# Altium footprint library PLCC-20.PcbLib: 1 footprints
Each footprint in its own frame and in the unit in brackets; x right, y up, seen from the top. Pads: shape width x height; smd on the part's side, far side on the other; paste and mask are expansions set on the pad; w line width, h text height; cw(c..) or ccw(c..) is an arc to the next point about the centre after c.
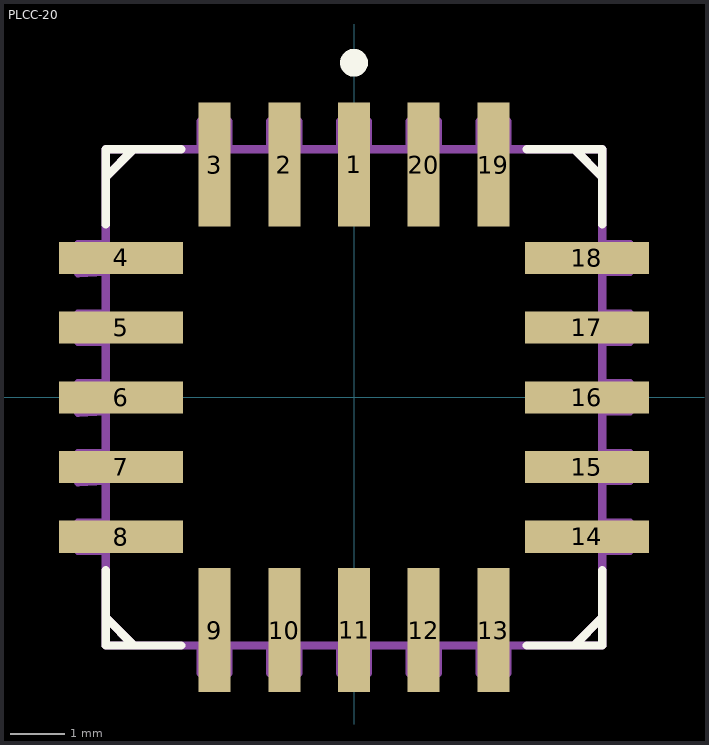
[diagram p0: the footprint, top view; thin cyan lines are the x and y axes]

## PLCC-20 [mil]
pads (20):
  rect 23x89 smd: 1(0,167) 2(-50,167) 3(-100,167) 9(-100,-167) 10(-50,-167) 11(0,-167) 12(50,-167) 13(100,-167) 19(100,167) 20(50,167)
  rect 89x23 smd: 4(-167,100) 5(-167,50) 6(-167,0) 7(-167,-50) 8(-167,-100) 14(167,-100) 15(167,-50) 16(167,0) 17(167,50) 18(167,100)
Top Overlay:
  circle w10: c0,240 r5
  lines w6: -178,-124 -178,-158 ; -178,124 -178,178 -158,178 ; -178,158 -158,178 ; -158,-178 -178,-158 ; -124,-178 -178,-178 -178,-158 ; -124,178 -158,178 ; 124,-178 158,-178 ; 124,178 178,178 178,158 ; 158,178 178,158 ; 178,-158 158,-178 ; 178,-124 178,-178 158,-178 ; 178,124 178,158
Mechanical 13:
  lines w6: -178,-158 -158,-178 ; -178,158 -158,178 ; 158,-178 178,-158 ; 158,178 178,158 ; -198,-110 -198,-90 -178,-90 -178,-110 -198,-110 ; -198,-61 -198,-40 -178,-40 -178,-60 -198,-61 ; -198,-11 -198,10 -178,10 -178,-10 -198,-11 ; -198,40 -198,60 -178,60 -178,40 -198,40 ; -198,89 -198,110 -178,110 -178,90 -198,89 ; -178,-178 178,-178 178,178 -178,178 -178,-178 ; -110,-198 -110,-178 -90,-178 -90,-198 -110,-198 ; -110,178 -90,178 -90,198 -110,198 -110,178 ; -60,-198 -60,-178 -40,-178 -40,-198 -60,-198 ; -60,178 -40,178 -40,198 -60,198 -60,178 ; -10,-198 -10,-178 10,-178 10,-198 -10,-198 ; -10,178 10,178 10,198 -10,198 -10,178 ; 40,-198 40,-178 60,-178 60,-198 40,-198 ; 40,178 60,178 60,198 40,198 40,178 ; 90,-198 90,-178 110,-178 110,-198 90,-198 ; 90,178 110,178 110,198 90,198 90,178 ; 178,-110 178,-90 198,-90 198,-110 178,-110 ; 178,-60 178,-40 198,-40 198,-60 178,-60 ; 178,-10 178,10 198,10 198,-10 178,-10 ; 178,40 178,60 198,60 198,40 178,40 ; 178,90 178,110 198,110 198,90 178,90
3D body "P_20A_ADI.step": height 180.12, standoff -0.01, extent -197.51,-197.51 197.53,197.53